# Altium footprint library 2512.PcbLib: 2 footprints
Each footprint in its own frame and in the unit in brackets; x right, y up, seen from the top. Pads: shape width x height; smd on the part's side, far side on the other; paste and mask are expansions set on the pad; w line width, h text height; cw(c..) or ccw(c..) is an arc to the next point about the centre after c.
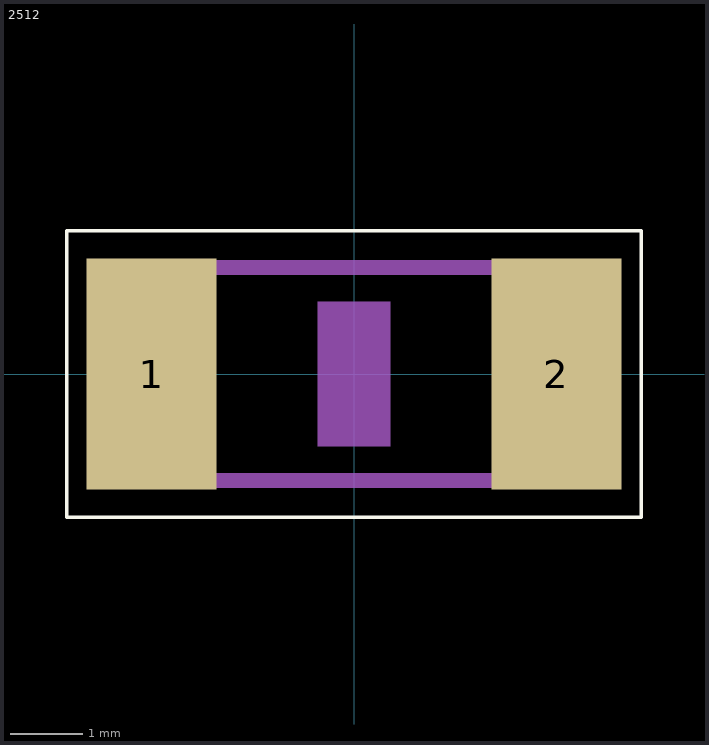
[diagram p0: the footprints below, top view; thin cyan lines are the x and y axes]

## 2512 [mm]
pads (2):
  rect 1.8x3.2 smd: 1(-2.8,0) 2(2.8,0)
Top Overlay:
  lines w0.051: -3.973,-1.983 3.973,-1.983 3.973,1.983 -3.973,1.983 -3.973,-1.983
Mechanical 1:
  region: -0.501,1 0.5,1 0.5,-1.001 -0.501,-1.001
  lines w0.203: -2.362,-1.473 2.387,-1.473 ; -2.362,1.473 2.387,1.473

## PCBComponent_1 [mm]